# Altium footprint library ARMflash_C_V5_1.PcbLib: 72 footprints (part 2 of 5)
Each footprint in its own frame and in the unit in brackets; x right, y up, seen from the top. Pads: shape width x height; smd on the part's side, far side on the other; paste and mask are expansions set on the pad; w line width, h text height; cw(c..) or ccw(c..) is an arc to the next point about the centre after c.
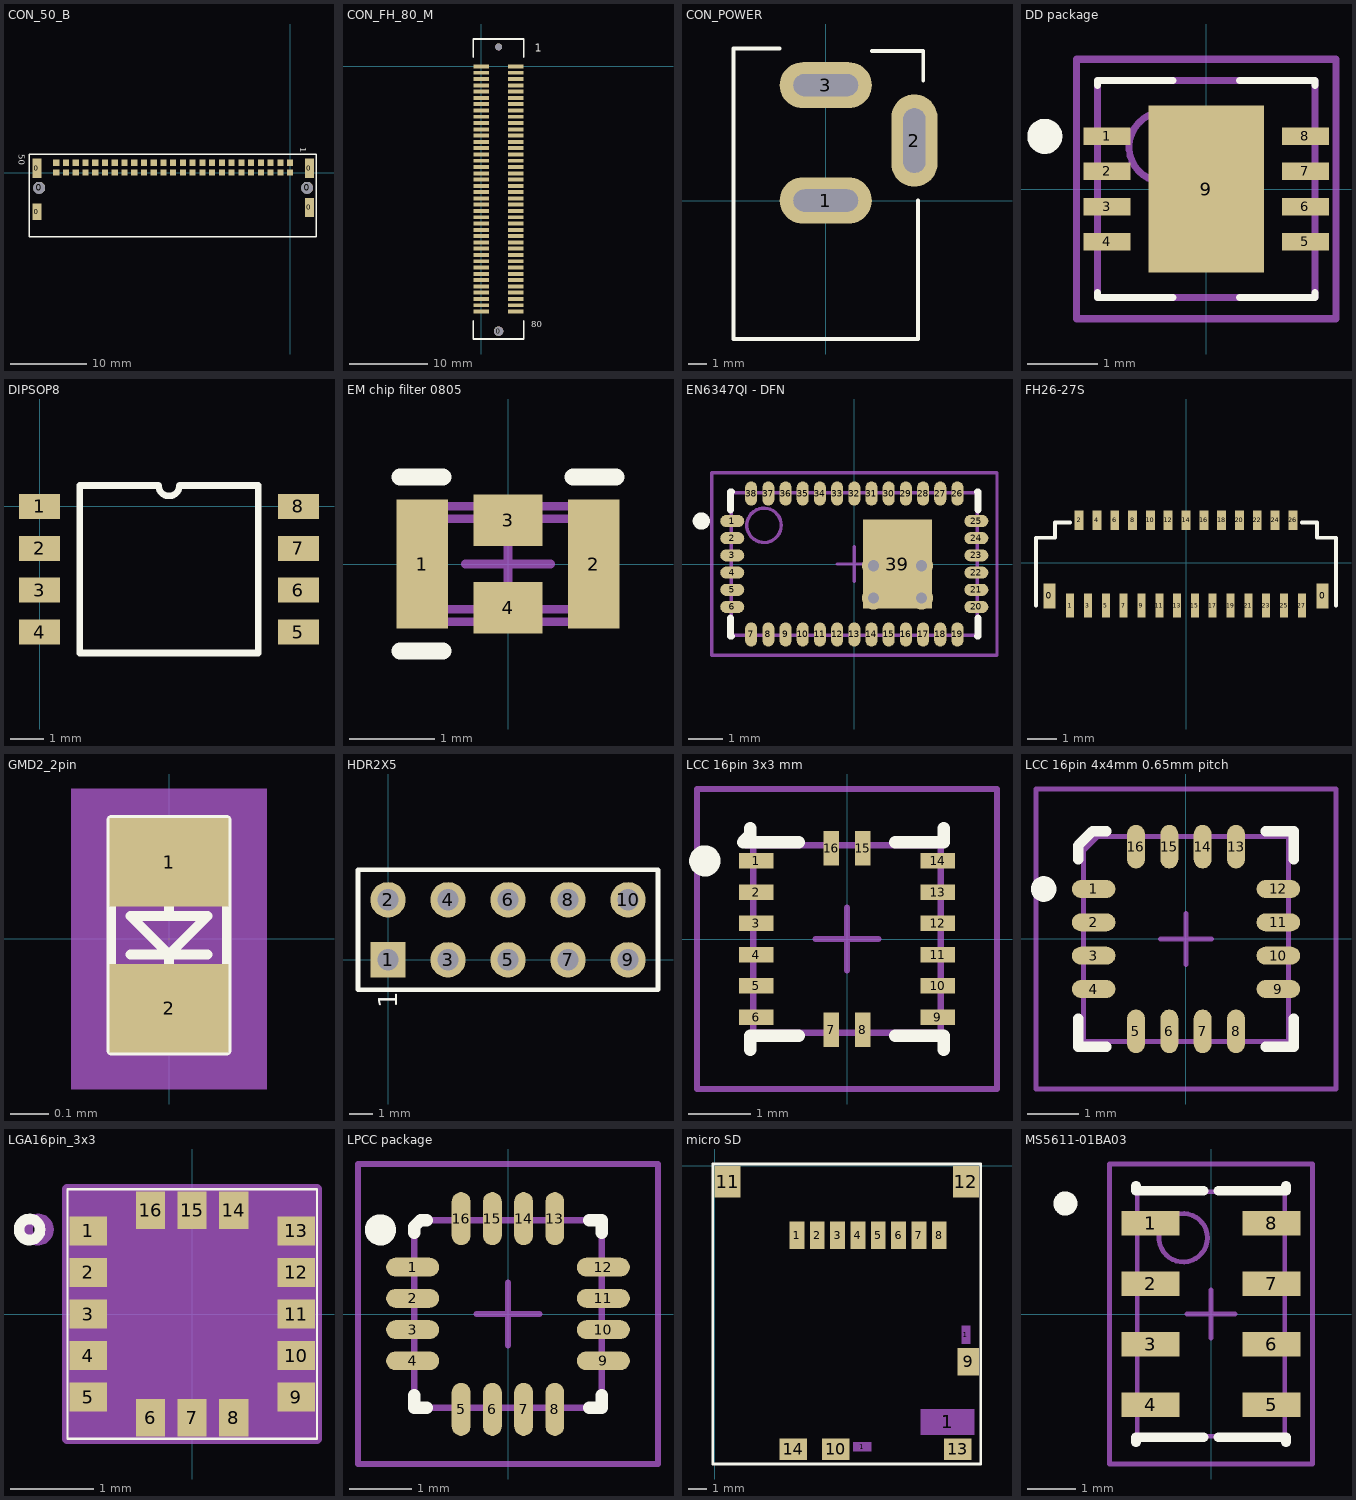
[diagram p1: the footprints below, top view; thin cyan lines are the x and y axes]

## CON_50_B [mm]
pads (56):
  rect 1.2x2.159 smd paste-0.03: 0(-33,-5.093)
  rect 1.2x2.5 smd paste-0.03: 0(-33,0.55) 0(2.51,-4.55) 0(2.51,0.55)
  round 1.575 hole 1.575 unplated paste-0.03: 0(-32.7,-2) 0(2.21,-2)
  rect 0.8x0.8 smd paste-0.03: 1(0,0) 2(0,1.27) 3(-1.27,0) 4(-1.27,1.27) 5(-2.54,0) 6(-2.54,1.27) 7(-3.81,0) 8(-3.81,1.27) 9(-5.08,0) 10(-5.08,1.27) 11(-6.35,0) 12(-6.35,1.27) 13(-7.62,0) 14(-7.62,1.27) 15(-8.89,0) 16(-8.89,1.27) 17(-10.16,0) 18(-10.16,1.27) 19(-11.43,0) 20(-11.43,1.27) 21(-12.7,0) 22(-12.7,1.27) 23(-13.97,0) 24(-13.97,1.27) 25(-15.24,0) 26(-15.24,1.27) 27(-16.51,0) 28(-16.51,1.27) 29(-17.78,0) 30(-17.78,1.27) 31(-19.05,0) 32(-19.05,1.27) 33(-20.32,0) 34(-20.32,1.27) 35(-21.59,0) 36(-21.59,1.27) 37(-22.86,0) 38(-22.86,1.27) 39(-24.13,0) 40(-24.13,1.27) 41(-25.4,0) 42(-25.4,1.27) 43(-26.67,0) 44(-26.67,1.27) 45(-27.94,0) 46(-27.94,1.27) 47(-29.21,0) 48(-29.21,1.27) 49(-30.48,0) 50(-30.48,1.27)
Top Overlay:
  lines w0.2: -34,-8.4 3.4,-8.4 3.4,2.4 -34,2.4 -34,-8.4
  text "1" at 1.337,3.301 h0.8
  text "50" at -35.328,2.348 h0.8

## CON_FH_80_M [mm]
pads (82):
  round 1.2 hole 1.2 unplated paste-0.03: 0(2.2,-33.7)
  round 0.889 hole 0.889 unplated paste-0.03: 0(2.2,2.5)
  rect 2x0.5 smd paste-0.03 mask+0.076: 1(0,0) 2(4.4,0) 3(0,-0.8) 4(4.4,-0.8) 5(0,-1.6) 6(4.4,-1.6) 7(0,-2.4) 8(4.4,-2.4) 9(0,-3.2) 10(4.4,-3.2) 11(0,-4) 12(4.4,-4) 13(0,-4.8) 14(4.4,-4.8) 15(0,-5.6) 16(4.4,-5.6) 17(0,-6.4) 18(4.4,-6.4) 19(0,-7.2) 20(4.4,-7.2) 21(0,-8) 22(4.4,-8) 23(0,-8.8) 24(4.4,-8.8) 25(0,-9.6) 26(4.4,-9.6) 27(0,-10.4) 28(4.4,-10.4) 29(0,-11.2) 30(4.4,-11.2) 31(0,-12) 32(4.4,-12) 33(0,-12.8) 34(4.4,-12.8) 35(0,-13.6) 36(4.4,-13.6) 37(0,-14.4) 38(4.4,-14.4) 39(0,-15.2) 40(4.4,-15.2) 41(0,-16) 42(4.4,-16) 43(0,-16.8) 44(4.4,-16.8) 45(0,-17.6) 46(4.4,-17.6) 47(0,-18.4) 48(4.4,-18.4) 49(0,-19.2) 50(4.4,-19.2) 51(0,-20) 52(4.4,-20) 53(0,-20.8) 54(4.4,-20.8) 55(0,-21.6) 56(4.4,-21.6) 57(0,-22.4) 58(4.4,-22.4) 59(0,-23.2) 60(4.4,-23.2) 61(0,-24) 62(4.4,-24) 63(0,-24.8) 64(4.4,-24.8) 65(0,-25.6) 66(4.4,-25.6) 67(0,-26.4) 68(4.4,-26.4) 69(0,-27.2) 70(4.4,-27.2) 71(0,-28) 72(4.4,-28) 73(0,-28.8) 74(4.4,-28.8) 75(0,-29.6) 76(4.4,-29.6) 77(0,-30.4) 78(4.4,-30.4) 79(0,-31.2) 80(4.4,-31.2)
Top Overlay:
  lines w0.2: -1,-32.4 -1,-34.7 5.4,-34.7 5.4,-32.4 ; -1,1.2 -1,3.5 5.4,3.5 5.4,1.2
  text "80" at 6.351,-33.23 h0.8
  text "1" at 6.796,1.847 h1

## CON_POWER [mm]
pads (3):
  oval 5x2.5 hole 1.2 slot 3.5 at 0 deg paste-0.03: 1(0,0) 3(0,6.25)
  oval 2.5x5 hole 1.2 slot 3.5 at 90 deg paste-0.03: 2(4.8,3.25)
Top Overlay:
  lines w0.2: -2.5,8.231 -5,8.231 -5,-7.5 5,-7.5 5,0 ; 2.5,8.104 5.287,8.104 5.287,6.5

## DD package [mm] "8-pin plastic DFN"
height 0.8
pads (9):
  rect 0.675x0.25 smd paste-0.03 mask+0.03: 1(-1.415,0.75) 2(-1.415,0.25) 3(-1.415,-0.25) 4(-1.415,-0.75) 5(1.415,-0.75) 6(1.415,-0.25) 7(1.415,0.25) 8(1.415,0.75)
  rect 1.65x2.38 smd paste-0.03 mask+0.03: 9(0,0)
Top Overlay:
  circle w0.25: c-2.302,0.75 r0.125
  lines w0.1: -1.55,-1.475 -1.55,-1.55 -0.475,-1.55 ; -1.55,1.475 -1.55,1.55 -0.475,1.55 ; 0.475,-1.55 1.55,-1.55 1.55,-1.475 ; 0.475,1.55 1.55,1.55 1.55,1.475
Mechanical 13:
  circle w0.1: c-0.6,0.6 r0.5
  lines w0.1: -1.55,-1.55 -1.55,1.55 1.55,1.55 1.55,-1.55 -1.55,-1.55
Mechanical 15:
  lines w0.1: -0.5,0 0.5,0 ; 0,-0.5 0,0.5 ; -1.85,-1.85 -1.85,1.85 1.85,1.85 1.85,-1.85 -1.85,-1.85
3D body: height 0.8, standoff 0.02, extent -1.55,-1.55 1.55,1.55

## DIPSOP8 [mm] "smd dip-4 switch"
height 1.45
pads (8):
  rect 1.25x0.76 smd paste-0.03: 1(0,0) 2(0,-1.27) 3(0,-2.54) 4(0,-3.81) 5(7.85,-3.81) 6(7.85,-2.54) 7(7.85,-1.27) 8(7.85,0)
Top Overlay:
  lines w0.2: 1.215,-4.445 6.635,-4.445 6.635,0.635 4.242,0.635 cw(c3.925,0.635) 3.607,0.635 1.215,0.635 1.215,-4.445

## EM chip filter 0805 [mm] "Murata chip filter four connections"
height 0.95
pads (4):
  rect 0.6x1.5 smd paste-0.03: 1(-1,0) 2(1,0)
  rect 0.8x0.6 smd paste-0.03: 3(0,0.508) 4(0,-0.508)
Top Overlay:
  lines w0.2: -1.262,-1.016 -0.762,-1.016 ; -1.262,1.016 -0.762,1.016 ; 0.762,1.016 1.262,1.016
Mechanical 13:
  lines w0.1: -1.1,-0.675 -1.1,0.675 1.1,0.675 1.1,-0.675 -1.1,-0.675
Mechanical 15:
  lines w0.1: -0.5,0 0.5,0 ; 0,-0.5 0,0.5 ; -0.75,-0.53 -0.75,0.53 0.75,0.53 0.75,-0.53 -0.75,-0.53
3D body: height 0.95, standoff 0, extent -1.1,-0.675 1.1,0.675

## EN6347QI - DFN [mm] "Enpirion PSU"
height 1.85
pads (39):
  oval 0.7x0.35 smd paste-0.01 mask+0.02: 1(-3.55,1.25) 2(-3.55,0.75) 3(-3.55,0.25) 4(-3.55,-0.25) 5(-3.55,-0.75) 6(-3.55,-1.25) 20(3.55,-1.25) 21(3.55,-0.75) 22(3.55,-0.25) 23(3.55,0.25) 24(3.55,0.75) 25(3.55,1.25)
  oval 0.35x0.7 smd paste-0.01 mask+0.02: 7(-3,-2.05) 8(-2.5,-2.05) 9(-2,-2.05) 10(-1.5,-2.05) 11(-1,-2.05) 12(-0.5,-2.05) 13(0,-2.05) 14(0.5,-2.05) 15(1,-2.05) 16(1.5,-2.05) 17(2,-2.05) 18(2.5,-2.05) 19(3,-2.05) 26(3,2.05) 27(2.5,2.05) 28(2,2.05) 29(1.5,2.05) 30(1,2.05) 31(0.5,2.05) 32(0,2.05) 33(-0.5,2.05) 34(-1,2.05) 35(-1.5,2.05) 36(-2,2.05) 37(-2.5,2.05) 38(-3,2.05)
  rect 2x2.6 smd paste-0.03: 39(1.255,0)
via 1.956,-0.051 diameter 0.66 hole 0.33
via 1.956,-0.991 diameter 0.66 hole 0.33
via 0.559,-0.991 diameter 0.66 hole 0.33
via 0.559,-0.051 diameter 0.66 hole 0.33
Top Overlay:
  circle w0.25: c-4.45,1.25 r0.125
  lines w0.2: -3.6,-1.575 -3.6,-2.1 -3.575,-2.1 ; -3.6,1.575 -3.6,2.1 -3.575,2.1 ; 3.575,-2.1 3.6,-2.1 3.6,-1.575 ; 3.575,2.1 3.6,2.1 3.6,1.575
Mechanical 13:
  circle w0.1: c-2.625,1.125 r0.5
  lines w0.1: -3.575,-2.075 -3.575,2.075 3.575,2.075 3.575,-2.075 -3.575,-2.075
Mechanical 15:
  lines w0.1: -0.5,0 0.5,0 ; 0,-0.5 0,0.5 ; -4.15,-2.65 -4.15,2.65 4.15,2.65 4.15,-2.65 -4.15,-2.65
3D body: height 1.85, standoff 0.01, extent -3.575,-2.075 3.575,2.075

## FH26-27S [mm] "Flexible Board ZIF connector"
height 1
pads (29):
  rect 0.4x0.85 smd paste-0.03: 0(-4.6,-1.112) 0(4.6,-1.112)
  rect 0.27x0.8 smd paste-0.01 mask+0.051: 1(-3.9,-1.437) 3(-3.3,-1.437) 5(-2.7,-1.437) 7(-2.1,-1.437) 9(-1.5,-1.437) 11(-0.9,-1.437) 13(-0.3,-1.437) 15(0.3,-1.437) 17(0.9,-1.437) 19(1.5,-1.437) 21(2.1,-1.437) 23(2.7,-1.437) 25(3.3,-1.437) 27(3.9,-1.437)
  rect 0.3x0.65 smd paste-0.03 mask+0.051: 2(-3.6,1.438) 4(-3,1.438) 6(-2.4,1.438) 8(-1.8,1.438) 10(-1.2,1.438) 12(-0.6,1.438) 14(0,1.438) 16(0.6,1.438) 18(1.2,1.438) 20(1.8,1.438) 22(2.4,1.438) 24(3,1.438) 26(3.6,1.438)
Top Overlay:
  lines w0.127: -5.05,-1.437 -5.05,0.849 ; -5.043,0.849 -4.408,0.849 -4.408,1.357 ; -4.408,1.363 -3.9,1.363 ; 3.9,1.363 4.408,1.363 ; 4.408,1.357 4.408,0.849 5.043,0.849 ; 5.05,-1.437 5.05,0.849
3D body: height 1.77, standoff -2.42, extent -4.95,-0.45 4.95,0.45
3D body: height 1.77, standoff -2.42, extent -4.95,-0.45 4.95,0.45

## GMD2_2pin [mm] "GMD2_2PIN"
pads (2):
  rect 0.31x0.23 smd paste-0.03 mask+0.03: 1(0,0.199) 2(0,-0.181)
Top Overlay:
  lines w0.025: -0.1,-0.041 0.1,-0.041 ; 0,-0.091 0,-0.041 ; 0,0.059 0,0.109 ; 0,-0.041 -0.1,0.059 0.1,0.059 0,-0.041 ; -0.15,-0.291 -0.15,0.309 0.15,0.309 0.15,-0.291 -0.15,-0.291
Mechanical 16:
  region: -0.254,-0.391 -0.254,0.39 0.254,0.39 0.254,-0.391
  lines w0.025: -0.1,-0.041 0.1,-0.041 ; 0,-0.091 0,-0.041 ; 0,0.059 0,0.109 ; 0,-0.041 -0.1,0.059 0.1,0.059 0,-0.041 ; -0.15,-0.291 -0.15,0.309 0.15,0.309 0.15,-0.291 -0.15,-0.291

## HDR2X5 [mm] "Connector; Header; 5x2 Position"
pads (10):
  rect 1.5x1.5 hole 0.9 paste-0.03: 1(0,0)
  round 1.5 hole 0.9 paste-0.03: 2(0,2.54) 3(2.54,0) 4(2.54,2.54) 5(5.08,0) 6(5.08,2.54) 7(7.62,0) 8(7.62,2.54) 9(10.16,0) 10(10.16,2.54)
Top Overlay:
  lines w0.2: -1.27,-1.27 11.43,-1.27 11.43,3.81 -1.27,3.81 -1.27,-1.27
  text "1" at 0.383,-2.046 h0.8

## LCC 16pin 3x3 mm [mm] "EP53A8"
height 1.15
pads (16):
  rect 0.55x0.25 smd paste+0 mask+0.05: 1(-1.45,1.25) 2(-1.45,0.75) 3(-1.45,0.25) 4(-1.45,-0.25) 5(-1.45,-0.75) 6(-1.45,-1.25) 9(1.45,-1.25) 10(1.45,-0.75) 11(1.45,-0.25) 12(1.45,0.25) 13(1.45,0.75) 14(1.45,1.25)
  rect 0.25x0.55 smd paste+0 mask+0.05: 7(-0.25,-1.45) 8(0.25,-1.45) 15(0.25,1.45) 16(-0.25,1.45)
Top Overlay:
  circle w0.25: c-2.275,1.25 r0.125
  lines w0.2: -1.55,-1.775 -1.55,-1.55 -0.775,-1.55 ; -1.55,1.775 -1.55,1.662 -1.662,1.55 -0.775,1.55 ; 0.775,-1.55 1.55,-1.55 1.55,-1.775 ; 0.775,1.55 1.55,1.55 1.55,1.775
Mechanical 13:
  lines w0.1: -1.612,1.5 -1.5,1.612 -1.5,-1.5 1.5,-1.5 1.5,1.5 -1.612,1.5
Mechanical 15:
  lines w0.1: -0.5,0 0.5,0 ; 0,-0.5 0,0.5 ; -2.4,-2.4 2.4,-2.4 2.4,2.4 -2.4,2.4 -2.4,-2.4
3D body: height 1.15, standoff 0, extent -1.612,-1.5 1.5,1.612

## LCC 16pin 4x4mm 0.65mm pitch [mm]
height 1
pads (16):
  oval 0.85x0.35 smd paste-0.03 mask+0.05: 1(-1.8,0.975) 2(-1.8,0.325) 3(-1.8,-0.325) 4(-1.8,-0.975) 9(1.8,-0.975) 10(1.8,-0.325) 11(1.8,0.325) 12(1.8,0.975)
  oval 0.35x0.85 smd paste-0.03 mask+0.05: 5(-0.975,-1.8) 6(-0.325,-1.8) 7(0.325,-1.8) 8(0.975,-1.8) 13(0.975,1.8) 14(0.325,1.8) 15(-0.325,1.8) 16(-0.975,1.8)
Top Overlay:
  circle w0.25: c-2.775,0.975 r0.125
  lines w0.2: -2.1,-1.55 -2.1,-2.1 -1.55,-2.1 ; -2.1,1.55 -2.1,1.825 -1.825,2.1 -1.55,2.1 ; 1.55,-2.1 2.1,-2.1 2.1,-1.55 ; 1.55,2.1 2.1,2.1 2.1,1.55
Mechanical 13:
  lines w0.1: -2,-2 2,-2 2,2 -1.725,2 -2,1.725 -2,-2
Mechanical 15:
  lines w0.1: -0.5,0 0.5,0 ; 0,-0.5 0,0.5 ; -2.925,-2.925 2.925,-2.925 2.925,2.925 -2.925,2.925 -2.925,-2.925
3D body: height 1, standoff 0, extent -2,-2 2,2

## LGA16pin_3x3 [mm] "LGA16PIN_3X3"
pads (16):
  rect 0.45x0.35 smd paste-0.03 mask+0.02: 1(-1.25,1) 2(-1.25,0.5) 3(-1.25,0) 4(-1.25,-0.5) 5(-1.25,-1) 9(1.25,-1) 10(1.25,-0.5) 11(1.25,0) 12(1.25,0.5) 13(1.25,1)
  rect 0.35x0.45 smd paste-0.03 mask+0.02: 6(-0.5,-1.25) 7(0,-1.25) 8(0.5,-1.25) 14(0.5,1.25) 15(0,1.25) 16(-0.5,1.25)
Top Overlay:
  circle w0.127: c-1.956,1.016 r0.127
  lines w0.025: -1.5,-1.5 -1.5,1.5 1.5,1.5 1.5,-1.5 -1.5,-1.5
Mechanical 16:
  circle w0.127: c-1.854,1.016 r0.127
  pour cut-out: -1.525,-1.525 1.525,-1.525 1.525,1.525 -1.525,1.525
  region: -1.525,-1.525 1.525,-1.525 1.525,1.525 -1.525,1.525
  lines w0.127: -1.5,-1.5 -1.5,1.5 1.5,1.5 1.5,-1.5 -1.5,-1.5
  text "12" at 1.25,0.092 h0.51
  text "13" at 1.25,0.592 h0.51
  text "16" at -0.5,0.842 h0.51
  text "10" at 1.25,-0.908 h0.51
  text "5" at -1.25,-1.204 h0.51
  text "1" at -1.25,0.796 h0.51
  text "15" at 0,0.842 h0.51
  text "14" at 0.5,0.842 h0.51
  text "4" at -1.25,-0.704 h0.51
  text "6" at -0.5,-1.454 h0.51
  text "11" at 1.25,-0.408 h0.51
  text "8" at 0.5,-1.454 h0.51
  text "7" at 0,-1.454 h0.51
  text "2" at -1.25,0.296 h0.51
  text "3" at -1.25,-0.204 h0.51
  text "9" at 1.25,-1.204 h0.51

## LPCC package [mm] "LCC, 16-Pins, Body 3.0x3.0mm (max), Pitch 0.50mm, IPC Medium Density"
height 0.9
pads (16):
  oval 0.85x0.3 smd paste-0.03 mask+0.03: 1(-1.525,0.75) 2(-1.525,0.25) 3(-1.525,-0.25) 4(-1.525,-0.75) 9(1.525,-0.75) 10(1.525,-0.25) 11(1.525,0.25) 12(1.525,0.75)
  oval 0.3x0.85 smd paste-0.03 mask+0.03: 5(-0.75,-1.525) 6(-0.25,-1.525) 7(0.25,-1.525) 8(0.75,-1.525) 13(0.75,1.525) 14(0.25,1.525) 15(-0.25,1.525) 16(-0.75,1.525)
Top Overlay:
  circle w0.25: c-2.042,1.346 r0.125
  lines w0.2: -1.5,-1.3 -1.5,-1.5 -1.3,-1.5 ; -1.5,1.3 -1.5,1.4 -1.4,1.5 -1.3,1.5 ; 1.3,-1.5 1.5,-1.5 1.5,-1.3 ; 1.3,1.5 1.5,1.5 1.5,1.3
Mechanical 13:
  lines w0.1: -1.5,-1.5 -1.5,1.4 -1.4,1.5 1.5,1.5 1.5,-1.5 -1.5,-1.5
Mechanical 15:
  lines w0.1: -0.5,0 0.5,0 ; 0,-0.5 0,0.5 ; -2.4,-2.4 -2.4,2.4 2.4,2.4 2.4,-2.4 -2.4,-2.4
3D body: height 0.9, standoff 0, extent -1.5,-1.5 1.5,1.5

## micro SD [mm] "micro SD receptable Molex 5025700893"
height 2
pads (17):
  rect 0.8x1.5 smd paste-0.03 mask+0.03: 1(4.45,-3.75) 2(5.55,-3.75) 3(6.65,-3.75) 4(7.75,-3.75) 5(8.85,-3.75) 6(9.95,-3.75) 7(11.05,-3.75) 8(12.15,-3.75)
  rect 1x0.5 on Mech16 paste-0.03: 1(8,-15.2)
  rect 2.9x1.4 on Mech16 paste-0.03: 1(12.6,-13.85)
  rect 0.5x1 on Mech15 paste-0.03: 1(13.6,-9.15)
  rect 1.15x1.5 smd paste-0.03: 9(13.725,-10.6)
  rect 1.5x1.15 smd paste-0.03: 10(6.55,-15.325) 13(13.15,-15.325) 14(4.25,-15.325)
  rect 1.4x1.7 smd paste-0.03: 11(0.7,-0.85) 12(13.6,-0.85)
Top Overlay:
  lines w0.15: -0.1,-16.129 14.4,-16.129 14.4,0.1 -0.1,0.1 -0.1,-16.129

## MS5611-01BA03 [mm] "MS5611 package"
height 0.95
pads (8):
  rect 1.2x0.5 smd paste-0.03: 1(-1.25,1.875) 2(-1.25,0.625) 3(-1.25,-0.625) 4(-1.25,-1.875) 5(1.25,-1.875) 6(1.25,-0.625) 7(1.25,0.625) 8(1.25,1.875)
Top Overlay:
  circle w0.25: c-3.01,2.284 r0.125
  lines w0.2: -1.55,-2.65 -1.55,-2.55 -0.15,-2.55 ; -1.55,2.65 -1.55,2.55 -0.15,2.55 ; 0.15,-2.55 1.55,-2.55 1.55,-2.65 ; 0.15,2.55 1.55,2.55 1.55,2.65
Mechanical 13:
  circle w0.1: c-0.575,1.575 r0.5
  lines w0.1: -1.525,-2.525 -1.525,2.525 1.525,2.525 1.525,-2.525 -1.525,-2.525
Mechanical 15:
  lines w0.1: -0.5,0 0.5,0 ; 0,-0.5 0,0.5 ; -2.1,-3.1 -2.1,3.1 2.1,3.1 2.1,-3.1 -2.1,-3.1
3D body: height 0.95, standoff 0.05, extent -1.525,-2.525 1.525,2.525